# EAGLE library part KAYO_TLC555 (library kxnStandard_IC_Function)
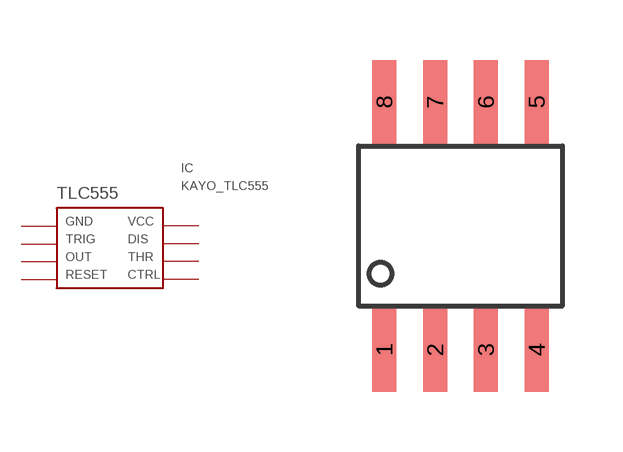
[diagram p1: symbol with the pads of TLC555; footprint TLC555]

Designator prefix IC

## KAYO_TLC555 (CC_SHOP: CongCo)  [TLC555]
1  1
2  2
3  3
4  4
5  5
6  6
7  7
8  8

## Footprint TLC555 (pad centres in mm)
smd 0.6 x 2.1: 1 -1.905,-3.1; 2 -0.635,-3.1; 3 0.635,-3.1; 4 1.905,-3.1; 5 1.905,3.1; 6 0.635,3.1; 7 -0.635,3.1; 8 -1.905,3.1